# Altium schematic symbol library IS31FL3728-QFLS2-TR.SchLib: 1 symbol
Pins are listed as number, name and electrical type; pins without a type are passive.

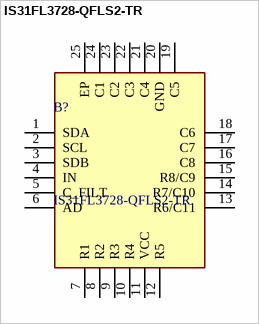
[diagram p0: symbol IS31FL3728-QFLS2-TR]

## IS31FL3728-QFLS2-TR
designator B?
LED Display Drivers Audio Mod Matrix LED Driver; Manufacturer_Name: Lumissil Microsystems; Geometry.Height: 0.8mm; Manufacturer_Part_Number: IS31FL3728-QFLS2-TR; Mouser Part Number: 870-IS31FL3728QFLS2R; Mouser Price/Stock: https://www.mouser.co.uk/ProductDetail/Lumissil/IS31FL3728-QFLS2-TR?qs=eyrSuY1LhL1XH7a1d6mV0Q%3D%3D; Arrow Part Number: IS31FL3728-QFLS2-TR; Arrow Price/Stock: https://www.arrow.com/en/products/is31fl3728-qfls2-tr/integrated-silicon-solution-inc?utm_currency=USD&region=nac; Datasheet Link: https://www.lumissil.com/assets/pdf/core/IS31FL3728_DS.pdf
footprint QFN50P400X400X80-25N-D
pins: 1 SDA, 2 SCL, 3 SDB, 4 IN, 5 C_FILT, 6 AD, 7 R1, 8 R2, 9 R3, 10 R4, 11 VCC, 12 R5, 13 R6/C11, 14 R7/C10, 15 R8/C9, 16 C8, 17 C7, 18 C6, 19 C5, 20 GND, 21 C4, 22 C3, 23 C2, 24 C1, 25 EP